# Altium schematic symbol library schlib.SchLib: 10 symbols
Pins are listed as number, name and electrical type; pins without a type are passive.

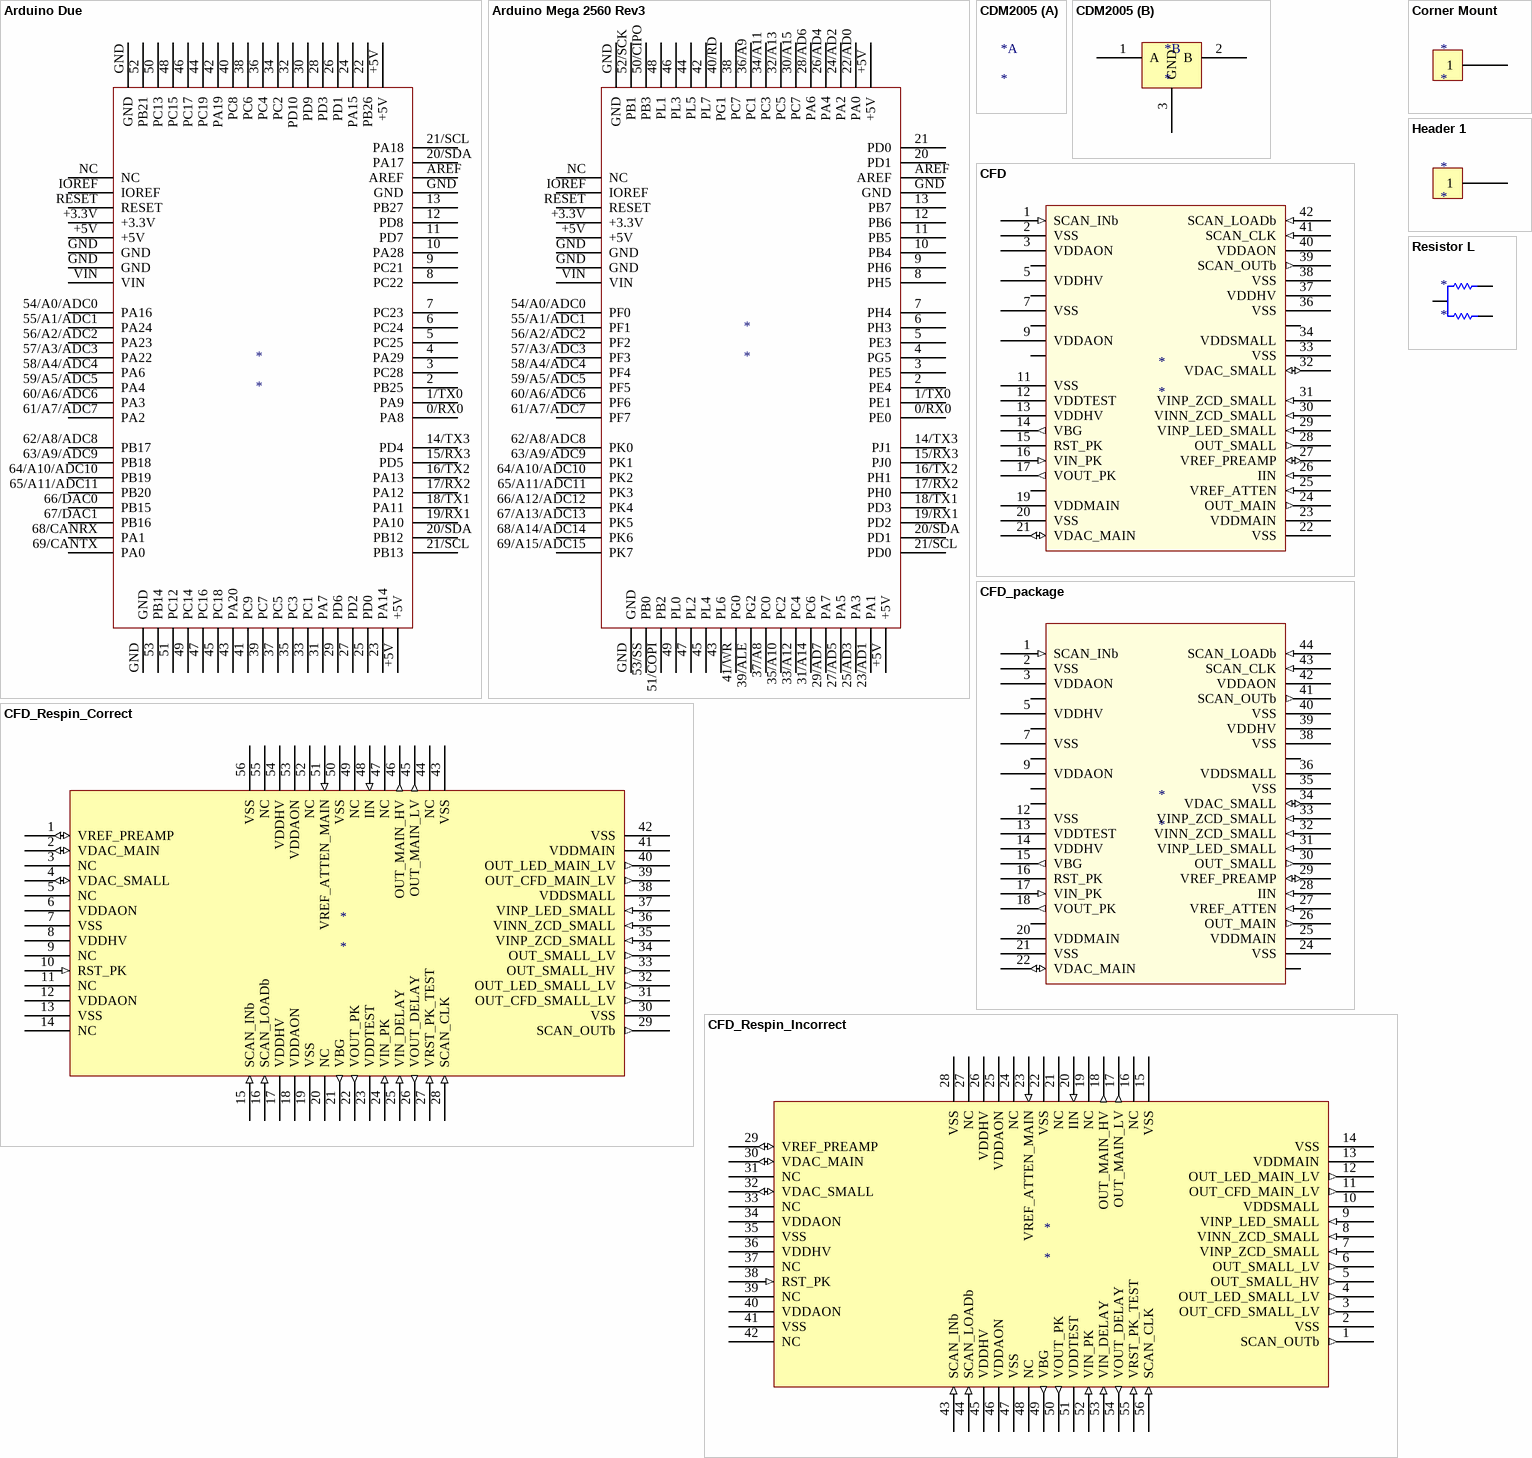
[diagram p0: symbols Arduino Due to Resistor L]

## Arduino Due
designator *
footprint Arduino Due
pins: 0/RX0 PA8, 1/TX0 PA9, 2 PB25, 3 PC28, 4 PA29, 5 PC25, 6 PC24, 7 PC23, 8 PC22, 9 PC21, 10 PA28, 11 PD7, 12 PD8, 13 PB27, 14/TX3 PD4, 15/RX3 PD5, 16/TX2 PA13, 17/RX2 PA12, 18/TX1 PA11, 19/RX1 PA10, 20/SDA PA17, 20/SDA PB12, 21/SCL PA18, 21/SCL PB13, 22 PB26, 23 PA14, 24 PA15, 25 PD0, 26 PD1, 27 PD2, 28 PD3, 29 PD6, 30 PD9, 31 PA7, 32 PD10, 33 PC1, 34 PC2, 35 PC3, 36 PC4, 37 PC5, 38 PC6, 39 PC7, 40 PC8, 41 PC9, 42 PA19, 43 PA20, 44 PC19, 45 PC18, 46 PC17, 47 PC16, 48 PC15, 49 PC14, 50 PC13, 51 PC12, 52 PB21, 53 PB14, 54/A0/ADC0 PA16, 55/A1/ADC1 PA24, 56/A2/ADC2 PA23, 57/A3/ADC3 PA22, 58/A4/ADC4 PA6, 59/A5/ADC5 PA4, 60/A6/ADC6 PA3, 61/A7/ADC7 PA2, 62/A8/ADC8 PB17, 63/A9/ADC9 PB18, 64/A10/ADC10 PB19, 65/A11/ADC11 PB20, 66/DAC0 PB15, 67/DAC1 PB16, 68/CANRX PA1, 69/CANTX PA0, +3.3V, +5V, +5V, +5V, AREF, GND, GND, GND, GND, GND, IOREF, NC, RESET, VIN

## Arduino Mega 2560 Rev3
designator *
footprint Arduino Mega 2560 Rev3
pins: 0/RX0 PE0, 1/TX0 PE1, 2 PE4, 3 PE5, 4 PG5, 5 PE3, 6 PH3, 7 PH4, 8 PH5, 9 PH6, 10 PB4, 11 PB5, 12 PB6, 13 PB7, 14/TX3 PJ1, 15/RX3 PJ0, 16/TX2 PH1, 17/RX2 PH0, 18/TX1 PD3, 19/RX1 PD2, 20 PD1, 20/SDA PD1, 21 PD0, 21/SCL PD0, 22/AD0 PA0, 23/AD1 PA1, 24/AD2 PA2, 25/AD3 PA3, 26/AD4 PA4, 27/AD5 PA5, 28/AD6 PA6, 29/AD7 PA7, 30/A15 PC7, 31/A14 PC6, 32/A13 PC5, 33/A12 PC4, 34/A11 PC3, 35/A10 PC2, 36/A9 PC1, 37/A8 PC0, 38 PC7, 39/ALE PG2, 40/RD PG1, 41/WR PG0, 42 PL7, 43 PL6, 44 PL5, 45 PL4, 46 PL3, 47 PL2, 48 PL1, 49 PL0, 50/CIPO PB3, 51/COPI PB2, 52/SCK PB1, 53/SS PB0, 54/A0/ADC0 PF0, 55/A1/ADC1 PF1, 56/A2/ADC2 PF2, 57/A3/ADC3 PF3, 58/A4/ADC4 PF4, 59/A5/ADC5 PF5, 60/A6/ADC6 PF6, 61/A7/ADC7 PF7, 62/A8/ADC8 PK0, 63/A9/ADC9 PK1, 64/A10/ADC10 PK2, 65/A11/ADC11 PK3, 66/A12/ADC12 PK4, 67/A13/ADC13 PK5, 68/A14/ADC14 PK6, 69/A15/ADC15 PK7, +3.3V, +5V, +5V, +5V, AREF, GND, GND, GND, GND, GND, IOREF, NC, RESET, VIN

## CDM2005
designator *
part B pins: 1 A, 2 B, 3 GND

## CFD
designator *
footprint QFN50P700X700X80_HS-43N (QFN, 42-Leads, Body 7.00x7.00mm, Pitch 0.50mm, Thermal Pad 4.00x4.00mm, IPC Medium Density)
footprint QFN50P700X700X80_HS-43N_wideVias (QFN, 42-Leads, Body 7.00x7.00mm, Pitch 0.50mm, Thermal Pad 4.00x4.00mm, IPC Medium Density)
pins: 1 SCAN_INb (in), 2 VSS (power), 3 VDDAON (power), 4 (hiz), 5 VDDHV (power), 6 (hiz), 7 VSS (power), 8 (hiz), 9 VDDAON (power), 10 (hiz), 11 VSS (power), 12 VDDTEST (power), 13 VDDHV (power), 14 VBG (out), 15 RST_PK, 16 VIN_PK (in), 17 VOUT_PK (out), 18 (hiz), 19 VDDMAIN (power), 20 VSS (power), 21 VDAC_MAIN (io), 22 VSS (power), 23 VDDMAIN (power), 24 OUT_MAIN (out), 25 VREF_ATTEN (in), 26 IIN (in), 27 VREF_PREAMP (io), 28 OUT_SMALL (out), 29 VINP_LED_SMALL (in), 30 VINN_ZCD_SMALL (in), 31 VINP_ZCD_SMALL (in), 32 VDAC_SMALL (io), 33 VSS (power), 34 VDDSMALL (power), 35 (hiz), 36 VSS (power), 37 VDDHV (power), 38 VSS (power), 39 SCAN_OUTb (out), 40 VDDAON (power), 41 SCAN_CLK (in), 42 SCAN_LOADb (in)

## CFD_package
designator *
footprint QFN50P700X700X80_HS-45N_WIDEVIAS (QFN, 44-Leads, Body 7.00x7.00mm, Pitch 0.50mm, Thermal Pad 4.00x4.00mm, IPC Medium Density)
pins: 1 SCAN_INb (in), 2 VSS (power), 3 VDDAON (power), 4 (hiz), 5 VDDHV (power), 6 (hiz), 7 VSS (power), 8 (hiz), 9 VDDAON (power), 10 (hiz), 11 (hiz), 12 VSS (power), 13 VDDTEST (power), 14 VDDHV (power), 15 VBG (out), 16 RST_PK, 17 VIN_PK (in), 18 VOUT_PK (out), 19 (hiz), 20 VDDMAIN (power), 21 VSS (power), 22 VDAC_MAIN (io), 23 (hiz), 24 VSS (power), 25 VDDMAIN (power), 26 OUT_MAIN (out), 27 VREF_ATTEN (in), 28 IIN (in), 29 VREF_PREAMP (io), 30 OUT_SMALL (out), 31 VINP_LED_SMALL (in), 32 VINN_ZCD_SMALL (in), 33 VINP_ZCD_SMALL (in), 34 VDAC_SMALL (io), 35 VSS (power), 36 VDDSMALL (power), 37 (hiz), 38 VSS (power), 39 VDDHV (power), 40 VSS (power), 41 SCAN_OUTb (out), 42 VDDAON (power), 43 SCAN_CLK (in), 44 SCAN_LOADb (in)

## CFD_Respin_Correct
designator *
footprint QFN50P800X800X80_HS-57N_WIDEVIAS (QFN, 56-Leads, Body 8.00x8.00mm, Pitch 0.50mm, Thermal Pad 5.94x5.94mm, IPC Medium Density)
pins: 1 VREF_PREAMP (io), 2 VDAC_MAIN (io), 3 NC, 4 VDAC_SMALL (io), 5 NC, 6 VDDAON (power), 7 VSS (power), 8 VDDHV (power), 9 NC, 10 RST_PK (in), 11 NC, 12 VDDAON (power), 13 VSS (power), 14 NC, 15 SCAN_INb (in), 16 SCAN_LOADb (in), 17 VDDHV (power), 18 VDDAON (power), 19 VSS (power), 20 NC, 21 VBG (out), 22 VOUT_PK (out), 23 VDDTEST (power), 24 VIN_PK (in), 25 VIN_DELAY (in), 26 VOUT_DELAY (out), 27 VRST_PK_TEST (in), 28 SCAN_CLK (in), 29 SCAN_OUTb (out), 30 VSS (power), 31 OUT_CFD_SMALL_LV (out), 32 OUT_LED_SMALL_LV (out), 33 OUT_SMALL_HV (out), 34 OUT_SMALL_LV (out), 35 VINP_ZCD_SMALL (in), 36 VINN_ZCD_SMALL (in), 37 VINP_LED_SMALL (in), 38 VDDSMALL (power), 39 OUT_CFD_MAIN_LV (out), 40 OUT_LED_MAIN_LV (out), 41 VDDMAIN (power), 42 VSS (power), 43 VSS (power), 44 NC, 45 OUT_MAIN_LV (out), 46 OUT_MAIN_HV (out), 47 NC, 48 IIN (in), 49 NC, 50 VSS (power), 51 VREF_ATTEN_MAIN (in), 52 NC, 53 VDDAON (power), 54 VDDHV (power), 55 NC, 56 VSS (power)

## CFD_Respin_Incorrect
designator *
footprint QFN50P800X800X80_HS-57N_WIDEVIAS (QFN, 56-Leads, Body 8.00x8.00mm, Pitch 0.50mm, Thermal Pad 5.94x5.94mm, IPC Medium Density)
footprint QFN50P800X800X80_HS-57N (QFN, 56-Leads, Body 8.00x8.00mm, Pitch 0.50mm, Thermal Pad 5.94x5.94mm, IPC Medium Density)
pins: 1 SCAN_OUTb (out), 2 VSS (power), 3 OUT_CFD_SMALL_LV (out), 4 OUT_LED_SMALL_LV (out), 5 OUT_SMALL_HV (out), 6 OUT_SMALL_LV (out), 7 VINP_ZCD_SMALL (in), 8 VINN_ZCD_SMALL (in), 9 VINP_LED_SMALL (in), 10 VDDSMALL (power), 11 OUT_CFD_MAIN_LV (out), 12 OUT_LED_MAIN_LV (out), 13 VDDMAIN (power), 14 VSS (power), 15 VSS (power), 16 NC, 17 OUT_MAIN_LV (out), 18 OUT_MAIN_HV (out), 19 NC, 20 IIN (in), 21 NC, 22 VSS (power), 23 VREF_ATTEN_MAIN (in), 24 NC, 25 VDDAON (power), 26 VDDHV (power), 27 NC, 28 VSS (power), 29 VREF_PREAMP (io), 30 VDAC_MAIN (io), 31 NC, 32 VDAC_SMALL (io), 33 NC, 34 VDDAON (power), 35 VSS (power), 36 VDDHV (power), 37 NC, 38 RST_PK (in), 39 NC, 40 VDDAON (power), 41 VSS (power), 42 NC, 43 SCAN_INb (in), 44 SCAN_LOADb (in), 45 VDDHV (power), 46 VDDAON (power), 47 VSS (power), 48 NC, 49 VBG (out), 50 VOUT_PK (out), 51 VDDTEST (power), 52 VIN_PK (in), 53 VIN_DELAY (in), 54 VOUT_DELAY (out), 55 VRST_PK_TEST (in), 56 SCAN_CLK (in)

## Corner Mount
designator *
footprint CornerMount
pins: 1

## Header 1
designator *
footprint Header1 (Single header connection)
pins: 1

## Resistor L
designator *
footprint RESL (Chip Resistor, 2-Leads, Body 1.70x0.90mm, IPC Medium Density)
pins: 1, 2, 3